# Altium schematic symbol library Convertidores AC_DC.SchLib: 2 symbols
Pins are listed as number, name and electrical type; pins without a type are passive.

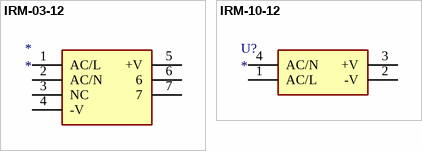
[diagram p0: symbols IRM-03-12 to IRM-10-12]

## IRM-03-12
designator *
datasheet: http://www.farnell.com/datasheets/2547883.pdf
footprint IRM-03
pins: 1 AC/L, 2 AC/N, 3 NC, 4 -V, 5 +V, 6, 7

## IRM-10-12
designator U?
datasheet: https://www.meanwellusa.com/webapp/product/search.aspx?prod=IRM-10; ComponentLink1Description: mouser; ComponentLink1URL: https://www.mouser.es/ProductDetail/MEAN-WELL/IRM-10-12?qs=WkdRfq4wf1Mps3oD7xn11w%3D%3D
footprint IRM-10
pins: 1 AC/L, 2 -V, 3 +V, 4 AC/N